# EAGLE library part PIC16*72 (library SparkFun)
PIC16F72, 28-Pin, 8-Bit CMOS FLASH MCU with A/D Converter 2K x 14 words of Program Memory, 128 x 8 bytes of Data Memory (RAM) Pinout compatible to PIC16C72/72A and PIC16F872 Peripheral Features: High Sink/Source Current: 25 mA Timer0: 8-bit timer/counter with 8-bit prescaler Timer1: 16-bit timer/counter with prescaler, can be incremented during SLEEP via external crystal/clock Timer2: 8-bit timer/counter with 8-bit period register, prescaler and postscaler Capture, Compare, PWM (CCP) module Capture is 16-bit, max. resolution is 12.5 ns Compare is 16-bit, max. resolution is 200 ns PWM max. resolution is 10-bit 8-bit, 5-channel analog-to-digital converter Synchronous Serial Port (SSP) with SPI? (Master/Slave) and I2C? (Slave) Brown-out detection circuitry for Brown-out Reset (BOR)
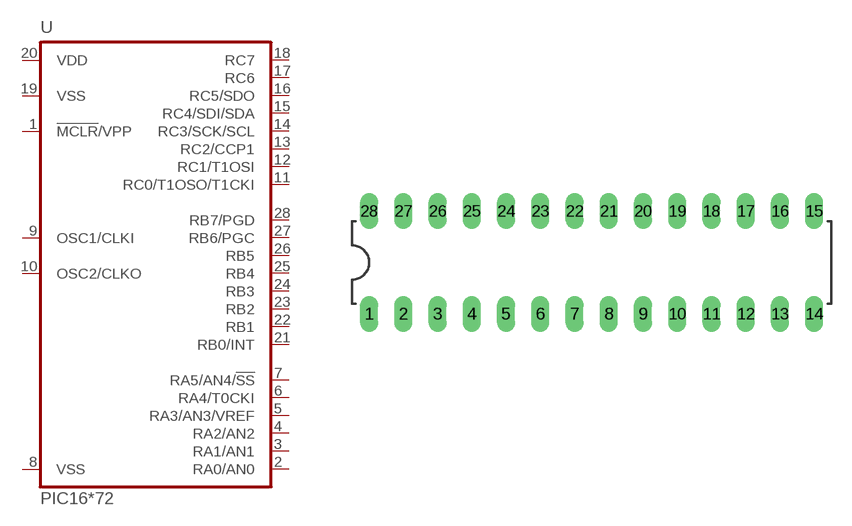
[diagram p380: symbol with the pads of DIL28-3; footprint DIL28-3]

Designator prefix U

## PIC16C72, PIC16F72  [DIL28-3]
1  !MCLR!/VPP  in
2  RA0/AN0
3  RA1/AN1
4  RA2/AN2
5  RA3/AN3/VREF
6  RA4/T0CKI
7  RA5/AN4/!SS
8  VSS  pwr
9  OSC1/CLKI
10  OSC2/CLKO
11  RC0/T1OSO/T1CKI
12  RC1/T1OSI
13  RC2/CCP1
14  RC3/SCK/SCL
15  RC4/SDI/SDA
16  RC5/SDO
17  RC6
18  RC7
19  VSS  pwr
20  VDD  pwr
21  RB0/INT
22  RB1
23  RB2
24  RB3
25  RB4
26  RB5
27  RB6/PGC
28  RB7/PGD

## Footprint DIL28-3 (pad centres in mm)
drill 0.813 long: 1 -16.51,-3.81; 2 -13.97,-3.81; 3 -11.43,-3.81; 4 -8.89,-3.81; 5 -6.35,-3.81; 6 -3.81,-3.81; 7 -1.27,-3.81; 8 1.27,-3.81; 9 3.81,-3.81; 10 6.35,-3.81; 11 8.89,-3.81; 12 11.43,-3.81; 13 13.97,-3.81; 14 16.51,-3.81; 15 16.51,3.81; 16 13.97,3.81; 17 11.43,3.81; 18 8.89,3.81; 19 6.35,3.81; 20 3.81,3.81; 21 1.27,3.81; 22 -1.27,3.81; 23 -3.81,3.81; 24 -6.35,3.81; 25 -8.89,3.81; 26 -11.43,3.81; 27 -13.97,3.81; 28 -16.51,3.81